# Altium schematic symbol library WRB_P-3WR2.SchLib: 1 symbol
Pins are listed as number, name and electrical type; pins without a type are passive.

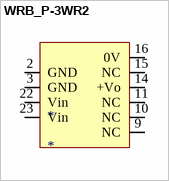
[diagram p0: symbol WRB_P-3WR2]

## WRB_P-3WR2
designator *
pins: 2 GND, 3 GND, 9 NC, 10 NC, 11 NC, 14 +Vo, 15 NC, 16 0V, 22 Vin, 23 Vin